# Altium footprint library Passive.PcbLib: 30 footprints (part 2 of 2)
Each footprint in its own frame and in the unit in brackets; x right, y up, seen from the top. Pads: shape width x height; smd on the part's side, far side on the other; paste and mask are expansions set on the pad; w line width, h text height; cw(c..) or ccw(c..) is an arc to the next point about the centre after c.
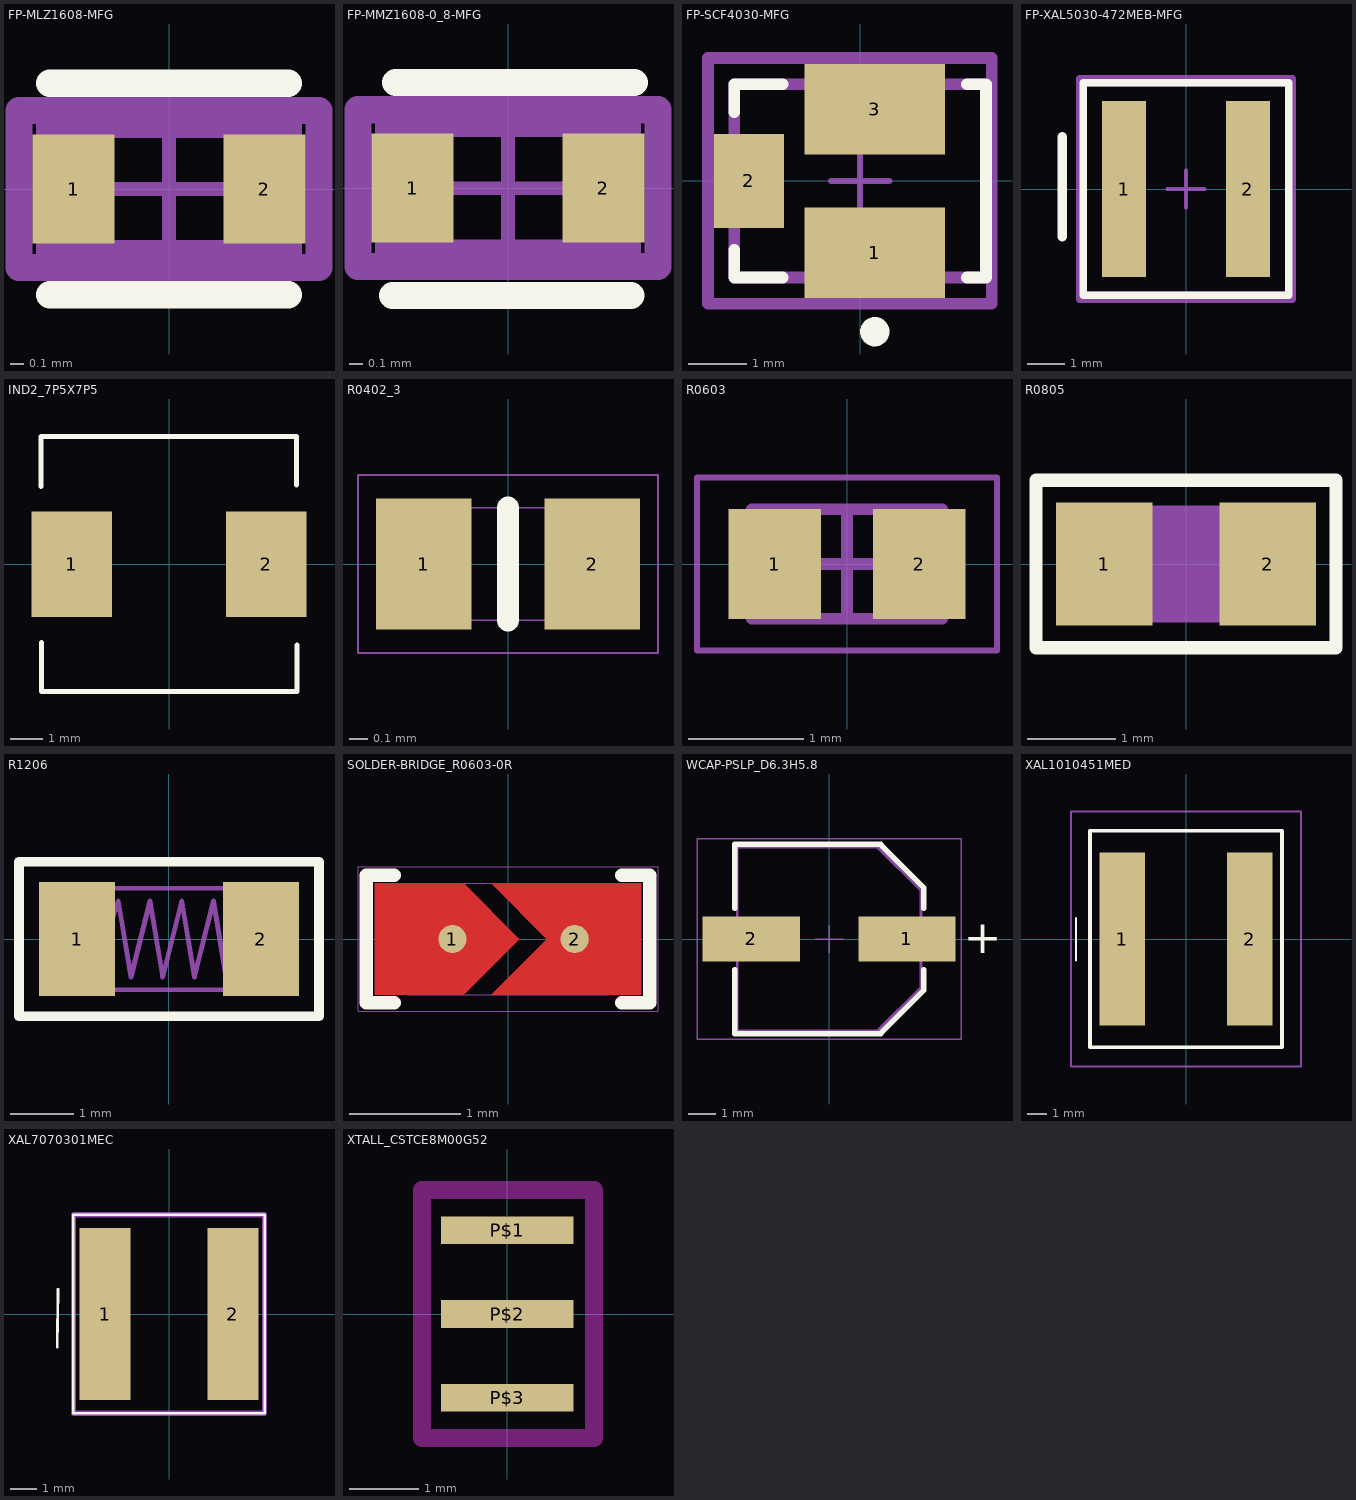
[diagram p1: the footprints below, top view; thin cyan lines are the x and y axes]

## FP-MLZ1608-MFG [mm]
pads (2):
  rect 0.6x0.8 smd paste+0 mask+0: 1(-0.7,0) 2(0.7,0)
Top Overlay:
  lines w0.2: -0.875,-0.775 0.875,-0.775 ; -0.875,0.775 0.875,0.775
Top Component Center:
  lines w0.1: -0.5,0 0.5,0 ; 0,-0.5 0,0.5
Top Courtyard:
  lines w0.2: -1.1,-0.575 1.1,-0.575 1.1,0.575 -1.1,0.575 -1.1,-0.575
Top 3D Body:
  lines w0.2: -0.875,-0.475 0.875,-0.475 0.875,0.475 -0.875,0.475 -0.875,-0.475
Top Assembly:
  lines w0.2: -1.1,-0.575 1.1,-0.575 1.1,0.575 -1.1,0.575 -1.1,-0.575
  text ".Designator" at 0,0.188 h1
3D body "Ind_TDK_MLZ1608A1R0WT000_eec.STEP": height 0.25, standoff 0, extent -1.1,-0.575 1.1,0.575

## FP-MMZ1608-0_8-MFG [mm]
pads (2):
  rect 0.6x0.8 smd paste+0 mask+0: 1(-0.7,0) 2(0.7,0)
Top Overlay:
  lines w0.2: -0.848,-0.787 0.902,-0.787 ; -0.825,0.775 0.925,0.775
Top Component Center:
  lines w0.1: -0.5,0 0.5,0 ; 0,-0.5 0,0.5
Top Courtyard:
  lines w0.2: -1.1,-0.575 -1.1,0.575 1.1,0.575 1.1,-0.575 -1.1,-0.575
Top 3D Body:
  lines w0.2: -0.875,-0.475 -0.875,0.475 0.875,0.475 0.875,-0.475 -0.875,-0.475
Top Assembly:
  lines w0.2: -1.1,-0.575 -1.1,0.575 1.1,0.575 1.1,-0.575 -1.1,-0.575
  text ".Designator" at 0,0.188 h1
3D body "FBead_TDK_MMZ1608A182BTA00_eec.STEP": height 0.25, standoff 0, extent -1.1,-0.575 1.1,0.575

## FP-SCF4030-MFG [mm]
pads (3):
  rect 2.4x1.55 smd paste+0: 1(0.25,-1.225) 3(0.25,1.225)
  rect 1.2x1.6 smd paste+0: 2(-1.9,0)
Top Overlay:
  circle w0.25: c0.25,-2.575 r0.125
  lines w0.2: -2.15,-1.175 -2.15,-1.65 -1.325,-1.65 ; -2.15,1.175 -2.15,1.65 -1.325,1.65 ; 1.825,-1.65 2.15,-1.65 2.15,1.65 1.825,1.65
Top Component Center:
  lines w0.1: -0.5,0 0.5,0 ; 0,-0.5 0,0.5
Top Courtyard:
  lines w0.2: -2.6,-2.1 2.25,-2.1 2.25,2.1 -2.6,2.1 -2.6,-2.1
Top 3D Body:
  lines w0.2: -2.15,-1.65 2.15,-1.65 2.15,1.65 -2.15,1.65 -2.15,-1.65
Top Assembly:
  lines w0.2: -2.6,-2.1 2.25,-2.1 2.25,2.1 -2.6,2.1 -2.6,-2.1
  text ".Designator" at -0.175,-0.001 h1
3D body "Fuse_Eaton_SCF4030-15-01_eec.STEP": height 0.25, standoff 0, extent -2.6,-2.1 2.25,2.1

## FP-XAL5030-472MEB-MFG [mm]
pads (2):
  rect 1.18x4.7 smd paste+0: 1(-1.655,0) 2(1.655,0)
Top Overlay:
  lines w0.2: -2.74,-2.84 -2.74,2.84 2.74,2.84 2.74,-2.84 -2.74,-2.84
  lines w0.254: -3.302,-1.27 -3.302,1.397
Top Component Center:
  lines w0.1: -0.5,0 0.5,0 ; 0,-0.5 0,0.5
Top Courtyard:
  lines w0.2: -2.84,-2.94 -2.84,2.94 2.84,2.94 2.84,-2.94 -2.84,-2.94
Top 3D Body:
  lines w0.2: -2.74,-2.84 -2.74,2.84 2.74,2.84 2.74,-2.84 -2.74,-2.84
Top Assembly:
  lines w0.2: -2.84,-2.94 -2.84,2.94 2.84,2.94 2.84,-2.94 -2.84,-2.94
  text ".Designator" at 0,-0.001 h1
3D body "Ind_Coilcraft_XAL5030-472MEB_eec.STEP": height 0.25, standoff 0, extent -2.84,-2.94 2.84,2.94

## IND2_7P5X7P5 [mil] "IND2_7P5X7P5"
pads (2):
  rect 98x128 smd: 1(-118.11,0) 2(118.11,0)
Top Overlay:
  lines w6: -155.52,93.96 -155.52,154.99 154.99,154.99 154.99,95.92 ; -155.03,-94.98 -155.03,-154.78 155.24,-154.78 155.24,-98.15 ; 154.99,95.92 155,95.92
  text ".Designator" at -155,165 h35
3D body "46682C.stp": height 156.7, standoff -0.78, extent -143.7,-143.7 143.7,143.7

## R0402_3 [mm]
pads (2):
  rect 0.51x0.7 smd mask+0.05: 1(-0.45,0) 2(0.45,0)
Top Overlay:
  lines w0.12: 0,-0.3 0,0.3
Mechanical 14:
  lines w0.01: -0.45,-0.3 -0.45,0.3 0.45,0.3 0.45,-0.3 -0.45,-0.3
  text "'.Designator'" at -2,-0.5 h0.75
Mechanical 16:
  lines w0.01: -0.8,-0.475 0.8,-0.475 0.8,0.475 -0.8,0.475 -0.8,-0.475
3D body: height 0.4, standoff 0, extent -0.455,-0.305 0.455,0.305
3D body "R0402.STEP": height 0.34, standoff 0, extent -0.52,-0.3 0.52,0.3

## R0603 [mm] "Chip Resistor, 2-Leads, Body 1.55x0.85mm, IPC Medium Density"
height 0.5
pads (2):
  rect 0.8x0.95 smd: 1(-0.625,0) 2(0.625,0)
Mechanical 13:
  lines w0.1: -0.825,-0.475 -0.825,0.475 0.825,0.475 0.825,-0.475 -0.825,-0.475
Mechanical 15:
  lines w0.05: -1.3,-0.75 -1.3,0.75 1.3,0.75 1.3,-0.75 -1.3,-0.75
  lines w0.1: -0.475,0 0.475,0 ; 0,-0.475 0,0.475
3D body: height 0.5, standoff 0, extent -0.525,-0.475 0.525,0.475
3D body: height 0.5, standoff 0, extent -0.825,-0.475 -0.525,0.475
3D body: height 0.5, standoff 0, extent 0.525,-0.475 0.825,0.475

## R0805 [mil] "R0805"
pads (2):
  rect 43x55 smd: 1(-36.5,0) 2(36.5,0)
Top Overlay:
  lines w6: -66.93,-37.4 -66.93,37.4 -11.81,37.4 66.93,37.4 66.93,-37.4 -66.93,-37.4
  text ".Designator" at 44,-51 h25
Top Courtyard:
  dashed: -39.37,-24.61 -39.37,24.61 39.37,24.61 39.37,-24.61
Mechanical 32:
  text "2" at 26.5,0 h25
  text "1" at -46.5,0 h25
Top Assembly:
  lines w3: -39.37,0 -23.62,0 -19.69,15.75 -11.81,-15.75 -3.94,15.75 3.94,-15.75 11.81,15.75 19.69,-15.75 27.56,0 39.37,0 ; -39.37,-24.61 -39.37,24.61 39.37,24.61 39.37,-24.61 -39.37,-24.61
3D body "R0805.step": height 18.66, standoff 0, extent -40.12,-24.84 38.62,24.45

## R1206 [mil]
pads (2):
  rect 47x71 smd: 1(-57.09,0) 2(57.09,0)
Top Overlay:
  lines w6: -93.09,-47.95 -93.09,47.95 93.09,47.95 93.09,-47.95 -93.09,-47.95
Mechanical 32:
  text "2" at 57.09,-10 h25
  text "1" at -57.09,-10 h25
Top Assembly:
  lines w3: -62.99,0 -39.37,0 -31.5,23.62 -23.62,-23.62 -11.81,23.62 -3.94,-23.62 7.87,23.62 15.75,-23.62 27.56,23.62 35.43,-23.62 43.31,0 62.99,0 ; -62.99,-31.5 -62.99,31.5 62.99,31.5 62.99,-31.5 -62.99,-31.5
Mechanical 255:
  text ".Designator" at -29.83,-83.5 h25
3D body "1206CAP.step": height 39.45, standoff 0, extent -63.07,-31.69 62.91,31.31

## SOLDER-BRIDGE_R0603-0R [mil]
pads (2):
  round 10 smd: 1(-19.68,0) 2(23.62,0)
Top Layer:
  region: -5.91,19.68 13.78,0 -5.91,-19.68 47.24,-19.68 47.24,19.68
  region: -47.24,-19.68 -47.24,19.68 -15.75,19.68 3.94,0 -15.75,-19.68
Top Overlay:
  lines w4.72: -40.35,-22.64 -50.2,-22.64 -50.2,6.89 -50.2,22.64 -40.35,22.64 ; 40.35,-22.64 50.2,-22.64 50.2,22.64 40.35,22.64
Top Solder:
  region: -37.4,21.65 37.4,21.65 37.4,-21.65 -37.4,-21.65
Mechanical 20:
  lines w0.39: -53.15,-25.59 -53.15,25.59 -7.87,25.59 53.15,25.59 53.15,-25.59 -53.15,-25.59
Mechanical 27:
  lines w0.39: -35.43,-19.68 -35.43,19.68 35.43,19.68 35.43,-19.68 -35.43,-19.68
3D body "R0603.STEP": height 22.05, standoff 0, extent -33.46,-15.74 33.47,15.75
3D body: height 19.68, standoff 0, extent -35.63,-19.88 35.63,19.88

## WCAP-PSLP_D6.3H5.8 [mm] "Aluminum Polymer Capacitors, body diameter 6.3mm"
height 5.8
pads (2):
  rect 3.5x1.6 smd: 1(2.8,0) 2(-2.8,0)
Top Overlay:
  lines w0.2: -3.4,-1.1 -3.4,-3.4 1.85,-3.4 3.4,-1.85 3.4,-1.1 ; -3.4,1.1 -3.4,3.4 1.85,3.4 3.4,1.85 3.4,1.1
  text "+" at 4.836,-0.514 h1.2
Top Component Outline:
  lines w0.1: -3.3,-3.3 1.75,-3.3 3.3,-1.75 3.3,1.75 1.75,3.3 -3.3,3.3 -3.3,-3.3
Top Designator:
  text ".Designator" at -7.498,-0.5 h1.5
Top Courtyard:
  lines w0.05: -0.5,0 0.5,0 ; 0,-0.5 0,0.5 ; -4.75,-3.6 4.75,-3.6 4.75,3.6 -4.75,3.6 -4.75,-3.6
Top 3D Body:
  lines w0.1: -3.3,-3.3 1.75,-3.3 3.3,-1.75 3.3,1.75 1.75,3.3 -3.3,3.3 -3.3,-3.3
3D body "6.3x5.8x2.2.stp": height 5.8, standoff 0, extent -3.65,-3.3 3.65,3.3

## XAL1010451MED [mm]
pads (2):
  rect 2.38x9 smd: 1(-3.325,0) 2(3.325,0)
Top Overlay:
  lines w0.1: -5.74,-1.118 -5.74,1.092
  lines w0.2: -5,-5.65 -5,5.65 5,5.65 5,-5.65 -5,-5.65
Mechanical 13:
  lines w0.1: -5,-5.65 -5,5.65 5,5.65 5,-5.65 -5,-5.65
Mechanical 15:
  lines w0.1: -6,-6.65 -6,6.65 6,6.65 6,-6.65 -6,-6.65
3D body "Coilcraft-XAL1010.step": height 9.9, standoff -0.1, extent -5.25,-5.875 5.25,5.925

## XAL7070301MEC [mm]
pads (2):
  rect 1.92x6.5 smd: 1(-2.41,0) 2(2.41,0)
Top Overlay:
  lines w0.1: -4.216,-1.261 -4.191,0.94 ; -3.5,-3.75 3.6,-3.75 ; -3.5,3.75 3.6,3.75 ; -3.607,-3.75 3.607,-3.75 3.607,3.75 -3.607,3.75 -3.607,-3.75
Mechanical 13:
  lines w0.2: -3.6,-3.75 3.6,-3.75 3.6,3.75 -3.6,3.75 -3.6,-3.75
3D body "Coilcraft-XAL7070.step": height 6.6, standoff -0.4, extent -3.799,-3.975 3.901,4.025

## XTALL_CSTCE8M00G52 [mm]
pads (3):
  rect 1.9x0.4 smd: P$1(0,1.2) P$2(0,0) P$3(0,-1.2)
Top Layer keep-out:
  lines w0.254: -1.219,-1.778 -1.219,1.778 1.245,1.778 1.245,-1.778 -1.219,-1.778
3D body "CSTCE8M00G52Z-R0.STEP": height 0.8, standoff 0, extent -0.665,-1.6 0.635,1.6